# Altium integrated library ACDC.IntLib: 2 symbols
Pins are listed as number, name and electrical type; pins without a type are passive.

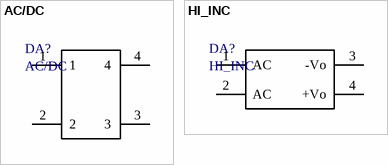
[diagram p0: symbols AC/DC to HI_INC]

## AC/DC
designator DA?
footprint AC/DC
pins: 1, 2, 3, 4

## HI_INC
designator DA?
footprint HI_LINC
pins: 1 AC, 2 AC, 3 -Vo, 4 +Vo